# EAGLE library part EL-M150 (library pighiXXX)
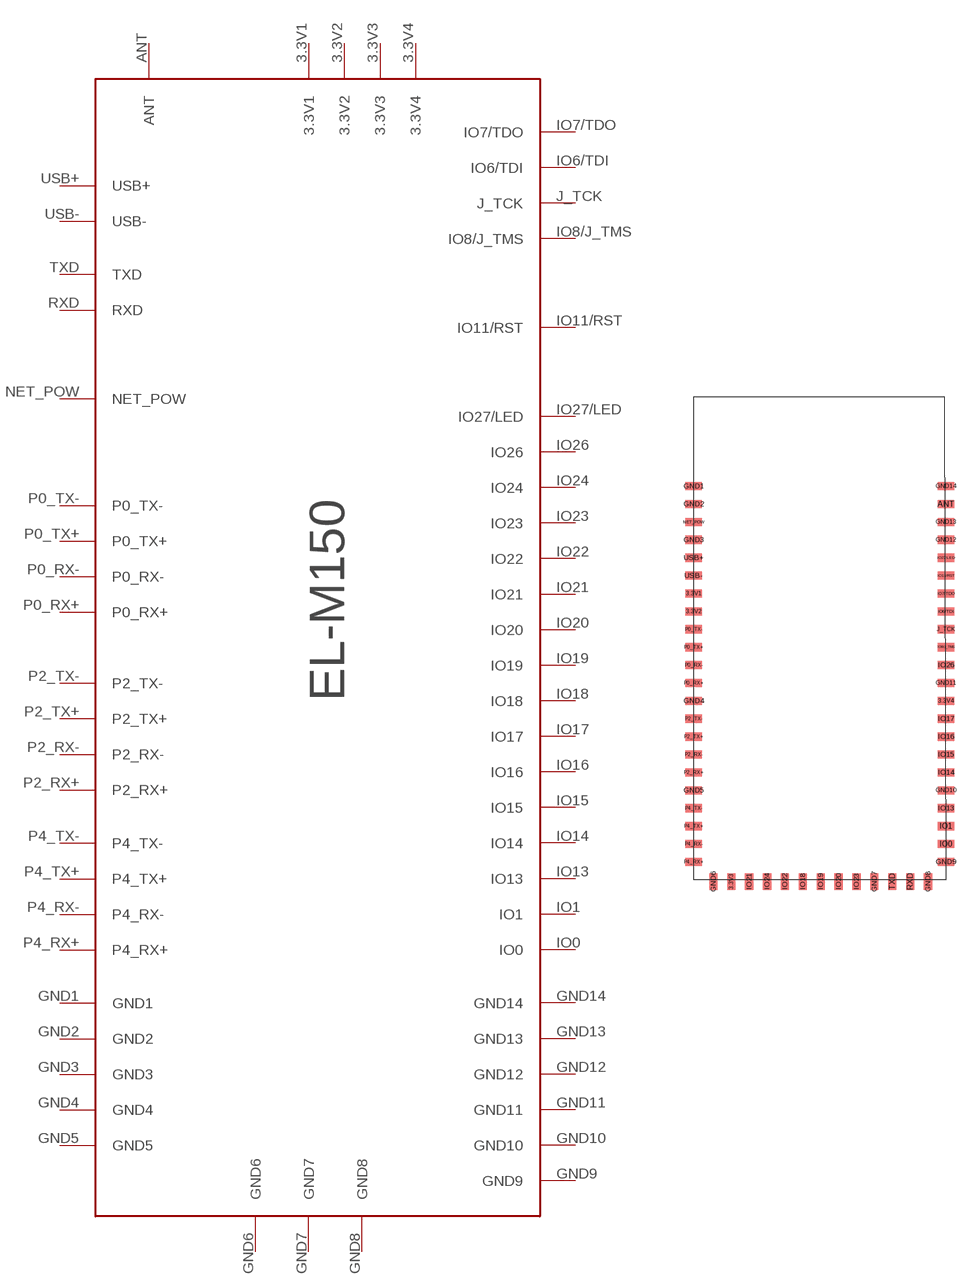
[diagram p0: symbol with the pads of EL-M150; footprint EL-M150]

Designator prefix -

## EL-M150  [EL-M150]
3.3V1  3.3V1
3.3V2  3.3V2
3.3V3  3.3V3
3.3V4  3.3V4
ANT  ANT
GND1  GND1
GND2  GND2
GND3  GND3
GND4  GND4
GND5  GND5
GND6  GND6
GND7  GND7
GND8  GND8
GND9  GND9
GND10  GND10
GND11  GND11
GND12  GND12
GND13  GND13
GND14  GND14
IO0  IO0
IO1  IO1
IO6/TDI  IO6/TDI
IO7/TDO  IO7/TDO
IO8/J_TMS  IO8/J_TMS
IO11/RST  IO11/RST
IO13  IO13
IO14  IO14
IO15  IO15
IO16  IO16
IO17  IO17
IO18  IO18
IO19  IO19
IO20  IO20
IO21  IO21
IO22  IO22
IO23  IO23
IO24  IO24
IO26  IO26
IO27/LED  IO27/LED
J_TCK  J_TCK
NET_POW  NET_POW
P0_RX+  P0_RX+
P0_RX-  P0_RX-
P0_TX+  P0_TX+
P0_TX-  P0_TX-
P2_RX+  P2_RX+
P2_RX-  P2_RX-
P2_TX+  P2_TX+
P2_TX-  P2_TX-
P4_RX+  P4_RX+
P4_RX-  P4_RX-
P4_TX+  P4_TX+
P4_TX-  P4_TX-
RXD  RXD
TXD  TXD
USB+  USB+
USB-  USB-

## Footprint EL-M150 (pad centres in mm)
EL-M150 OpenWRT Module
smd 1.829 x 0.914: 3.3V1 0,30; 3.3V2 0,28; 3.3V4 28.2,18; ANT 28.2,40; GND1 0,42; GND2 0,40; GND3 0,36; GND4 0,18; GND5 0,8; GND9 28.2,0; GND10 28.2,8; GND11 28.2,20; GND12 28.2,36; GND13 28.2,38; GND14 28.2,42; IO0 28.2,2; IO1 28.2,4; IO6/TDI 28.2,28; IO7/TDO 28.2,30; IO8/J_TMS 28.2,24; IO11/RST 28.2,32; IO13 28.2,6; IO14 28.2,10; IO15 28.2,12; IO16 28.2,14; IO17 28.2,16; IO26 28.2,22; IO27/LED 28.2,34; J_TCK 28.2,26; NET_POW 0,38; P0_RX+ 0,20; P0_RX- 0,22; P0_TX+ 0,24; P0_TX- 0,26; P2_RX+ 0,10; P2_RX- 0,12; P2_TX+ 0,14; P2_TX- 0,16; P4_RX+ 0,0; P4_RX- 0,2; P4_TX+ 0,4; P4_TX- 0,6; USB+ 0,34; USB- 0,32
smd 0.914 x 1.829: 3.3V3 4.2,-2.2; GND6 2.2,-2.2; GND7 20.2,-2.2; GND8 26.2,-2.2; IO18 12.2,-2.2; IO19 14.2,-2.2; IO20 16.2,-2.2; IO21 6.2,-2.2; IO22 10.2,-2.2; IO23 18.2,-2.2; IO24 8.2,-2.2; RXD 24.2,-2.2; TXD 22.2,-2.2